# EAGLE library part TPS621XX (library hsk_2012)
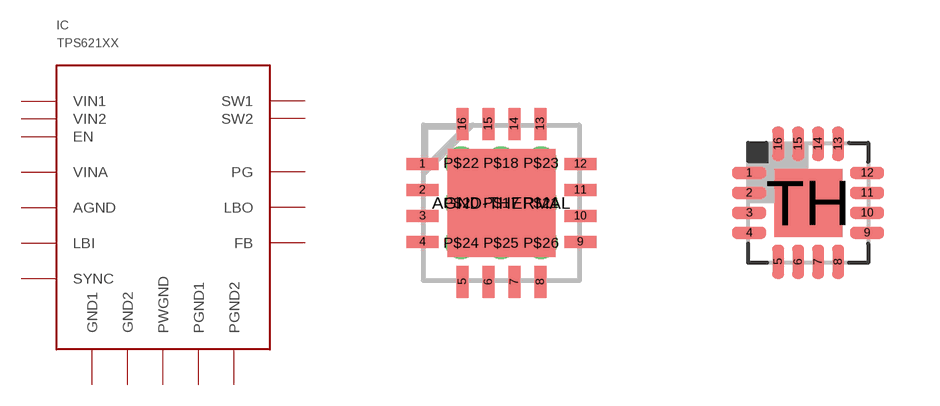
[diagram p56: symbol with the pads of QFN16-TPS; footprints QFN16-TPS, QFN16]

Designator prefix IC

## TPS621XX_1  [QFN16-TPS]
1  PGND1
2  VIN1
3  VIN2
4  EN
5  SYNC
6  LBO
7  LBI
8  VINA
9  AGND
10  FB
11  GND1
12  GND2
13  PG
14  SW1
15  SW2
16  PGND2
AGND-THERMAL  PWGND
P$17  PWGND
P$18  PWGND
P$20  PWGND
P$21  PWGND
P$22  PWGND
P$23  PWGND
P$24  PWGND
P$25  PWGND
P$26  PWGND

## TPS621XX"  [QFN16]
1  PGND1
2  VIN1
3  VIN2
4  EN
5  SYNC
6  LBO
7  LBI
8  VINA
9  AGND
10  FB
11  GND1
12  GND2
13  PG
14  SW1
15  SW2
16  PGND2
TH  PWGND

## TPS621XX_3  [QFN16-TPS-NOTHERM]
1  PGND1
2  VIN1
3  VIN2
4  EN
5  SYNC
6  LBO
7  LBI
8  VINA
9  AGND
10  FB
11  GND1
12  GND2
13  PG
14  SW1
15  SW2
16  PGND2
AGND-THERMAL  PWGND

## Footprint QFN16-TPS (pad centres in mm)
smd 0.8 x 0.3: 1 -1.975,0.975; 2 -1.975,0.325; 3 -1.975,-0.325; 4 -1.975,-0.975; 9 1.975,-0.975; 10 1.975,-0.325; 11 1.975,0.325; 12 1.975,0.975
smd 0.3 x 0.8: 5 -0.975,-1.975; 6 -0.325,-1.975; 7 0.325,-1.975; 8 0.975,-1.975; 13 0.975,1.975; 14 0.325,1.975; 15 -0.325,1.975; 16 -0.975,1.975
smd 2.7 x 2.7: AGND-THERMAL 0,0
drill 0.3 pad 0.5: P$17 0,0; P$18 0,1; P$20 -1,0; P$21 1,0; P$22 -1,1; P$23 1,1; P$24 -1,-1; P$25 0,-1; P$26 1,-1

## Footprint QFN16 (pad centres in mm)
RTE (S-PQFP-N16) 3x3 mm Source: www.ti.com .. tpa6132a2 direct path stereo $.65.pdf
smd 0.85 x 0.3: 1 -1.475,0.75; 2 -1.475,0.25; 3 -1.475,-0.25; 4 -1.475,-0.75; 9 1.475,-0.75; 10 1.475,-0.25; 11 1.475,0.25; 12 1.475,0.75
smd 0.3 x 0.85: 5 -0.75,-1.475; 6 -0.25,-1.475; 7 0.25,-1.475; 8 0.75,-1.475; 13 0.75,1.475; 14 0.25,1.475; 15 -0.25,1.475; 16 -0.75,1.475
smd 1.7 x 1.7: TH 0,0

## Footprint QFN16-TPS-NOTHERM (pad centres in mm)
smd 0.8 x 0.3: 1 -1.975,0.975; 2 -1.975,0.325; 3 -1.975,-0.325; 4 -1.975,-0.975; 9 1.975,-0.975; 10 1.975,-0.325; 11 1.975,0.325; 12 1.975,0.975
smd 0.3 x 0.8: 5 -0.975,-1.975; 6 -0.325,-1.975; 7 0.325,-1.975; 8 0.975,-1.975; 13 0.975,1.975; 14 0.325,1.975; 15 -0.325,1.975; 16 -0.975,1.975
smd 2.7 x 2.7: AGND-THERMAL 0,0